# Altium schematic symbol library PCB_Alimentation_équipe1.SCHLIB: 53 symbols
Pins are listed as number, name and electrical type; pins without a type are passive.

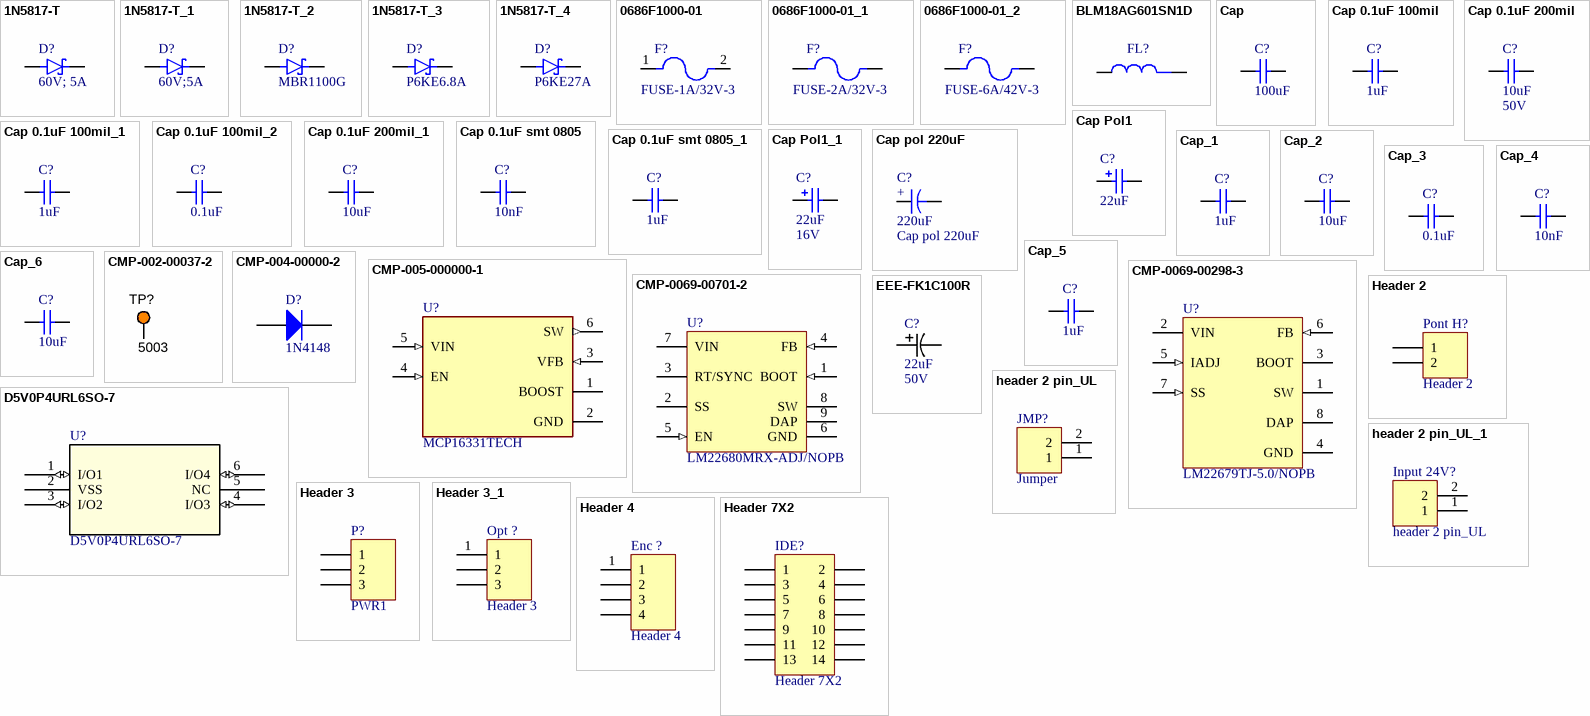
[diagram p0: symbols 1N5817-T to Header 7X2]

## 1N5817-T
designator D?, comment 60V; 5A
Diode Schottky 60 V 5A Through Hole; MF: Diodes Inc.; MP: 1N5817-T; Package: DO-41 Diodes Inc.; Price: None; Check_prices: https://www.snapeda.com/parts/1N5817-T/Diodes+Inc./view-part/?ref=eda; Value: *; SnapEDA_Link: https://www.snapeda.com/parts/1N5817-T/Diodes+Inc./view-part/?ref=snap; Availability: In Stock; Purchase-URL: https://pricing.snapeda.com/search/part/1N5817-T/?ref=eda
footprint DIOAD1039W78L463D236
pins: 1 K, 2 A

## 1N5817-T_1
designator D?, comment 60V;5A
60V 5A, 641-1420-1-nd; MF: Diodes Inc.; MP: 1N5817-T; Package: DO-41 Diodes Inc.; Price: None; Check_prices: https://www.snapeda.com/parts/1N5817-T/Diodes+Inc./view-part/?ref=eda; Value: *; SnapEDA_Link: https://www.snapeda.com/parts/1N5817-T/Diodes+Inc./view-part/?ref=snap; Availability: In Stock; Purchase-URL: https://pricing.snapeda.com/search/part/1N5817-T/?ref=eda
footprint DIOAD1039W78L463D236
footprint SB560ET-G_PGL
pins: 1 K, 2 A

## 1N5817-T_2
designator D?, comment MBR1100G
Diode Schottky 20 V 1A Through Hole DO-41; MF: Diodes Inc.; MP: 1N5817-T; Package: DO-41 Diodes Inc.; Price: None; Check_prices: https://www.snapeda.com/parts/1N5817-T/Diodes+Inc./view-part/?ref=eda; Value: *; SnapEDA_Link: https://www.snapeda.com/parts/1N5817-T/Diodes+Inc./view-part/?ref=snap; Availability: In Stock; Purchase-URL: https://pricing.snapeda.com/search/part/1N5817-T/?ref=eda
footprint DIOAD1039W78L463D236
pins: 1 K, 2 A

## 1N5817-T_3
designator D?, comment P6KE6.8A
TVS DIODE 5.8VWM 10.5VC DO201; MF: Diodes Inc.; MP: 1N5817-T; Package: DO-41 Diodes Inc.; Price: None; Check_prices: https://www.snapeda.com/parts/1N5817-T/Diodes+Inc./view-part/?ref=eda; Value: *; SnapEDA_Link: https://www.snapeda.com/parts/1N5817-T/Diodes+Inc./view-part/?ref=snap; Availability: In Stock; Purchase-URL: https://pricing.snapeda.com/search/part/1N5817-T/?ref=eda
footprint DIOAD1039W78L463D236
footprint P6KE6.8A_PGL
pins: 1 K, 2 A

## 1N5817-T_4
designator D?, comment P6KE27A
Diode Schottky 20 V 1A Through Hole DO-41; MF: Diodes Inc.; MP: 1N5817-T; Package: DO-41 Diodes Inc.; Price: None; Check_prices: https://www.snapeda.com/parts/1N5817-T/Diodes+Inc./view-part/?ref=eda; Value: *; SnapEDA_Link: https://www.snapeda.com/parts/1N5817-T/Diodes+Inc./view-part/?ref=snap; Availability: In Stock; Purchase-URL: https://pricing.snapeda.com/search/part/1N5817-T/?ref=eda
footprint DIOAD1039W78L463D236
footprint P6KE27A_PGL
pins: 1 K, 2 A

## 0686F1000-01
designator F?, comment FUSE-1A/32V-3
0603 SMT Fuse | Fast Acting | 1A; MF: Bel Fuse; MP: 0686F1000-01; SnapEDA_Link: https://www.snapeda.com/parts/0686F1000-01/Bel+Circuit+Protection/view-part/?ref=snap; Package: 0603 Bel Fuse Inc.; Value: *; Check_prices: https://www.snapeda.com/parts/0686F1000-01/Bel+Circuit+Protection/view-part/?ref=eda
footprint FUSC1608X60N
pins: 1, 2

## 0686F1000-01_1
designator F?, comment FUSE-2A/32V-3
0603 SMT Fuse | Fast Acting | 1A; MF: Bel Fuse; MP: 0686F1000-01; SnapEDA_Link: https://www.snapeda.com/parts/0686F1000-01/Bel+Circuit+Protection/view-part/?ref=snap; Package: 0603 Bel Fuse Inc.; Value: *; Check_prices: https://www.snapeda.com/parts/0686F1000-01/Bel+Circuit+Protection/view-part/?ref=eda
footprint FUSC1608X60N
pins: 1, 2

## 0686F1000-01_2
designator F?, comment FUSE-6A/42V-3
0603 SMT Fuse | Fast Acting | 6A  p15125ct-ND; MF: Bel Fuse; MP: 0686F1000-01; SnapEDA_Link: https://www.snapeda.com/parts/0686F1000-01/Bel+Circuit+Protection/view-part/?ref=snap; Package: 0603 Bel Fuse Inc.; Value: *; Check_prices: https://www.snapeda.com/parts/0686F1000-01/Bel+Circuit+Protection/view-part/?ref=eda
footprint FUSC1608X60N
pins: 1, 2

## BLM18AG601SN1D
designator FL?  (value not drawn)
33 Ohms  - Ferrite Bead 0603 (1608 Metric); MF: Murata; Check_prices: https://www.snapeda.com/parts/BLM18AG601SN1D/Murata/view-part/?ref=eda; SnapEDA_Link: https://www.snapeda.com/parts/BLM18AG601SN1D/Murata/view-part/?ref=snap; Availability: In Stock; Value: *; Price: None; MP: BLM18AG601SN1D; Package: 1608 Murata; Purchase-URL: https://pricing.snapeda.com/search/part/BLM18AG601SN1D/?ref=eda
footprint BEADC1608X95N
pins: 1, 2

## Cap
designator C?  value 100uF  (hidden comment: Cap)
Published: 8-Jun-2000; LatestRevisionDate: 17-Jul-2002; LatestRevisionNote: Re-released for DXP Platform.; PackageReference: RAD-0.3; Publisher: Altium Limited; PackageDescription: Radial Cap, Thru-Hole; 2 Leads; 0.3 in Pin Spacing
footprint RAD-0.3 (Radial Cap, Thru-Hole; 2 Leads; 0.3 in Pin Spacing)
simulation model CAP (Capacitor)
signal-integrity model Cap
footprint TH_Cap_CERAM
footprint CAPPRD250W45D630H600
pins: 1, 2

## Cap 0.1uF 100mil
designator C?  value 1uF  (hidden comment: Cap 0.1uF 100mil)
CAP CER 0.1uF 50V X7R RADIAL; Published: 8-Jun-2000; LatestRevisionDate: 17-Jul-2002; LatestRevisionNote: Re-released for DXP Platform.; PackageReference: RAD-0.3; Publisher: Altium Limited; PackageDescription: Radial Cap, Thru-Hole; 2 Leads; 0.3 in Pin Spacing; Digikey: 399-4264-ND
simulation model CAP (Capacitor)
signal-integrity model Cap
footprint condensateur 0.1uf 100mil (condensateur 0.1uf 100mil, Thru hole)
pins: 1, 2

## Cap 0.1uF 100mil_1
designator C?, comment value 1uF  (hidden comment: Cap 1uF 100mil)
CAP CER 0.1uF 50V X7R RADIAL; Published: 8-Jun-2000; LatestRevisionDate: 17-Jul-2002; LatestRevisionNote: Re-released for DXP Platform.; PackageReference: RAD-0.3; Publisher: Altium Limited; PackageDescription: Radial Cap, Thru-Hole; 2 Leads; 0.3 in Pin Spacing; Digikey: 399-4264-ND
simulation model CAP (Capacitor)
signal-integrity model Cap
footprint condensateur 0.1uf 100mil (condensateur 0.1uf 100mil, Thru hole)
pins: 1, 2

## Cap 0.1uF 100mil_2
designator C?, comment value 0.1uF  (hidden comment: Cap 0.1uF 100mil)
CAP CER 0.1uF 50V X7R RADIAL; Published: 8-Jun-2000; LatestRevisionDate: 17-Jul-2002; LatestRevisionNote: Re-released for DXP Platform.; PackageReference: RAD-0.3; Publisher: Altium Limited; PackageDescription: Radial Cap, Thru-Hole; 2 Leads; 0.3 in Pin Spacing; Digikey: 399-4264-ND
simulation model CAP (Capacitor)
signal-integrity model Cap
footprint condensateur 0.1uf 100mil (condensateur 0.1uf 100mil, Thru hole)
pins: 1, 2

## Cap 0.1uF 200mil
designator C?, comment 50V  value 10uF
CAP CER 0.1uF 200mil; Published: 8-Jun-2000; LatestRevisionDate: 17-Jul-2002; LatestRevisionNote: Re-released for DXP Platform.; PackageReference: RAD-0.3; Publisher: Altium Limited; PackageDescription: Radial Cap, Thru-Hole; 2 Leads; 0.3 in Pin Spacing
simulation model CAP (Capacitor)
signal-integrity model Cap
footprint Condensateur 0.1uF 200mil (Condensateur 0.1uF 200mil radial)
footprint condensateur 0.1uf 100mil (condensateur 0.1uf 100mil, Thru hole)
footprint Condensateur 0.1uF 400mil (Condensateur 0.1uF 400mil Axial)
pins: 1, 2

## Cap 0.1uF 200mil_1
designator C?, comment value 10uF  (hidden comment: CAP CER 0.1uF 200mil)
Published: 8-Jun-2000; LatestRevisionDate: 17-Jul-2002; LatestRevisionNote: Re-released for DXP Platform.; PackageReference: RAD-0.3; Publisher: Altium Limited; PackageDescription: Radial Cap, Thru-Hole; 2 Leads; 0.3 in Pin Spacing
simulation model CAP (Capacitor)
signal-integrity model Cap
footprint Condensateur 0.1uF 200mil (Condensateur 0.1uF 200mil radial)
footprint condensateur 0.1uf 100mil (condensateur 0.1uf 100mil, Thru hole)
footprint Condensateur 0.1uF 400mil (Condensateur 0.1uF 400mil Axial)
pins: 1, 2

## Cap 0.1uF smt 0805
designator C?, comment value 10nF  (hidden comment: CAP CER 0.1uF 50V X7R 0805)
Published: 8-Jun-2000; LatestRevisionDate: 17-Jul-2002; LatestRevisionNote: Re-released for DXP Platform.; PackageReference: RAD-0.3; Publisher: Altium Limited; PackageDescription: Radial Cap, Thru-Hole; 2 Leads; 0.3 in Pin Spacing; Parameter 1: *; Digikey: ‎399-1169-1-ND‎
simulation model CAP (Capacitor)
signal-integrity model Cap
footprint cap0805 reflow (Capacitor, 0.1uF 0805)
footprint TH_Cap_CERAM
footprint CAPRB500W50L450T300H550
pins: 1, 2

## Cap 0.1uF smt 0805_1
designator C?, comment value 1uF  (hidden comment: CAP CER 0.1uF 50V X7R 0805)
Published: 8-Jun-2000; LatestRevisionDate: 17-Jul-2002; LatestRevisionNote: Re-released for DXP Platform.; PackageReference: RAD-0.3; Publisher: Altium Limited; PackageDescription: Radial Cap, Thru-Hole; 2 Leads; 0.3 in Pin Spacing; Parameter 1: *; Digikey: ‎399-1169-1-ND‎
simulation model CAP (Capacitor)
signal-integrity model Cap
footprint cap0805 reflow (Capacitor, 0.1uF 0805)
footprint TH_Cap_CERAM
footprint CAPRB500W50L450T300H550
pins: 1, 2

## Cap Pol1
designator C?  value 22uF  (hidden comment: Cap Pol1)
Polarized Capacitor (Radial); Published: 8-Jun-2000; LatestRevisionDate: 17-Jul-2002; LatestRevisionNote: Re-released for DXP Platform.; PackageReference: RB7.6-15; Publisher: Altium Limited; PackageDescription: Polarized Capacitor (Radial); 2 Leads
footprint RB7.6-15 (Polarized Capacitor (Radial); 2 Leads)
simulation model CAP (Capacitor)
signal-integrity model Cap Pol
footprint TH_CAP_ELEC
footprint CAPPRD350W60D800H1150
footprint CAPPRD350W60D800H1150
footprint CAPPRD250W45D630H600
pins: 1, 2
1 alternate drawing of the same symbol

## Cap Pol1_1
designator C?, comment 16V  value 22uF
Polarized Capacitor (Radial); Published: 8-Jun-2000; LatestRevisionDate: 17-Jul-2002; LatestRevisionNote: Re-released for DXP Platform.; PackageReference: RB7.6-15; Publisher: Altium Limited; PackageDescription: Polarized Capacitor (Radial); 2 Leads
footprint RB7.6-15 (Polarized Capacitor (Radial); 2 Leads)
simulation model CAP (Capacitor)
signal-integrity model Cap Pol
footprint TH_CAP_ELEC
footprint CAPPRD250W45D630H600
footprint CAPPRD350W60D800H1150
footprint CAPPRD250W45D630H600
pins: 1, 2
1 alternate drawing of the same symbol

## Cap pol 220uF
designator C?  value 220uF
CAP ALUM 220UF 20% 35V RADIAL; Published: 23-Sep-2002; PackageReference: CAPR5-4X5; Publisher: Altium Limited; PackageDescription: Capacitor; 2 Leads; Digikey: 399-6122-ND
simulation model CAP (Capacitor)
signal-integrity model Cap
footprint Condensateur 220uF 5mm pitch (Condensateur 220uF 5mm pitch,  10mm X 12mm)
pins: 1, 2
text: +

## Cap_1
designator C?, comment value 1uF  (hidden comment: XR7105)
FG24X7R1H105KRT06 (TH); Published: 8-Jun-2000; LatestRevisionDate: 17-Jul-2002; LatestRevisionNote: Re-released for DXP Platform.; PackageReference: RAD-0.3; Publisher: Altium Limited; PackageDescription: Radial Cap, Thru-Hole; 2 Leads; 0.3 in Pin Spacing
footprint RAD-0.3 (Radial Cap, Thru-Hole; 2 Leads; 0.3 in Pin Spacing)
simulation model CAP (Capacitor)
signal-integrity model Cap
footprint TH_Cap_CERAM
footprint CAPRB500W50L450T300H550
pins: 1, 2

## Cap_2
designator C?, comment value 10uF  (hidden comment: XR7 106)
Published: 8-Jun-2000; LatestRevisionDate: 17-Jul-2002; LatestRevisionNote: Re-released for DXP Platform.; PackageReference: RAD-0.3; Publisher: Altium Limited; PackageDescription: Radial Cap, Thru-Hole; 2 Leads; 0.3 in Pin Spacing
footprint RAD-0.3 (Radial Cap, Thru-Hole; 2 Leads; 0.3 in Pin Spacing)
simulation model CAP (Capacitor)
signal-integrity model Cap
footprint TH_Cap_CERAM
footprint CAPPRD350W60D800H1150
footprint CAPPRD350W60D800H1150
footprint CAPRB500W50L450T300H550
pins: 1, 2

## Cap_3
designator C?, comment value 0.1uF  (hidden comment: C320c104m5u5ta)
Published: 8-Jun-2000; LatestRevisionDate: 17-Jul-2002; LatestRevisionNote: Re-released for DXP Platform.; PackageReference: RAD-0.3; Publisher: Altium Limited; PackageDescription: Radial Cap, Thru-Hole; 2 Leads; 0.3 in Pin Spacing
footprint RAD-0.3 (Radial Cap, Thru-Hole; 2 Leads; 0.3 in Pin Spacing)
simulation model CAP (Capacitor)
signal-integrity model Cap
footprint TH_Cap_CERAM
footprint CAPRB500W50L450T300H550
pins: 1, 2

## Cap_4
designator C?, comment value 10nF  (hidden comment: C320c105k5n5ta)
Published: 8-Jun-2000; LatestRevisionDate: 17-Jul-2002; LatestRevisionNote: Re-released for DXP Platform.; PackageReference: RAD-0.3; Publisher: Altium Limited; PackageDescription: Radial Cap, Thru-Hole; 2 Leads; 0.3 in Pin Spacing
footprint RAD-0.3 (Radial Cap, Thru-Hole; 2 Leads; 0.3 in Pin Spacing)
simulation model CAP (Capacitor)
signal-integrity model Cap
footprint TH_Cap_CERAM
footprint CAPRB500W50L450T300H550
pins: 1, 2

## Cap_5
designator C?, comment value 1uF  (hidden comment: XR7 105)
FG24X7R1H105KRT06 (TH); Published: 8-Jun-2000; LatestRevisionDate: 17-Jul-2002; LatestRevisionNote: Re-released for DXP Platform.; PackageReference: RAD-0.3; Publisher: Altium Limited; PackageDescription: Radial Cap, Thru-Hole; 2 Leads; 0.3 in Pin Spacing
footprint RAD-0.3 (Radial Cap, Thru-Hole; 2 Leads; 0.3 in Pin Spacing)
simulation model CAP (Capacitor)
signal-integrity model Cap
footprint TH_Cap_CERAM
footprint CAPRB500W50L450T300H550
pins: 1, 2

## Cap_6
designator C?, comment value 10uF  (hidden comment: XR7 105)
FG24X7R1H105KRT06 (TH); Published: 8-Jun-2000; LatestRevisionDate: 17-Jul-2002; LatestRevisionNote: Re-released for DXP Platform.; PackageReference: RAD-0.3; Publisher: Altium Limited; PackageDescription: Radial Cap, Thru-Hole; 2 Leads; 0.3 in Pin Spacing
footprint RAD-0.3 (Radial Cap, Thru-Hole; 2 Leads; 0.3 in Pin Spacing)
simulation model CAP (Capacitor)
signal-integrity model Cap
footprint TH_Cap_CERAM
footprint CAPRB500W50L450T300H550
pins: 1, 2

## CMP-002-00037-2
designator TP?, comment 5003
Test Point, Orange, Height 4.6 mm, Tail Length 3 mm, 1-Pin THD, RoHS; Manufacturer: Keystone; Colour: Orange; Packaging: Bulk; Package Description: 1-Pin Through Hole Device, Dia 2.54 mm; Pins: 1; Package Reference: 5003; Datasheet Version: Jun-15; Case/Package: 5003; Mounting Technology: TH; Connector Type: TestPoint; Diameter: 2.54mm; Contact Material: Bronze; Datasheet URL: http://keyelco.com/userAssets/file/M65p56.pdf; Manufacturer URL: http://www.keyelco.com/; Package Quantity: 10; Contact Plating: Tin; RoHS Compliant: True
footprint KSTN-5003 (Test Point, Through Hole, Dia 2.54mm)
pins: 1

## CMP-004-00000-2
designator D?, comment 1N4148
High Speed Diode, 100 V, 0.45 A, -65 to 175 degC, 2-Pin SOD27, RoHS, Bulk; Manufacturer: Fairchild; Elements: 1; Recovery Time: 4ns; Forward Current: 300mA; Power: 500mW; Forward Voltage: 1V; Max Surge Current: 4A; Peak Reverse Current: 5uA; Datasheet URL: http://www.nxp.com/documents/data_sheet/1N4148_1N4448.pdf; Min Operating Temperature: -65°C; Manufacturer URL: https://www.fairchildsemi.com/; Packaging: Bulk; Diameter: 1.91mm; Pins: 2; Package URL: http://www.nxp.com/documents/data_sheet/1N4148_1N4448.pdf; Package Reference: SOD27; Max Operating Temperature: 175°C; Package Quantity: 2000; Case/Package: DO; Datasheet Version: Aug-04; RoHS Compliant: True
footprint NXP-SOD27-2_V (SOD27, 2-Leads, Dia 1.85mm, Body Length 4.25mm, Pin Spacing 9mm)
pins: 1 A, 2 K

## CMP-005-000000-1
designator U?, comment MCP16331TECH
Switching Regulator [Microchip] MCP16331T-E/CH Switching Regulator; MF: Microchip Technology; SnapEDA_Link: https://www.snapeda.com/parts/MCP16331TECH/Microchip/view-part/?ref=snap; Design Item ID: MCP16331TECH; Package: None; Source: MCP16331TECH.SchLib; Availability: Not in stock; Pin Count: 6; Value: *; Check_prices: https://www.snapeda.com/parts/MCP16331TECH/Microchip/view-part/?ref=eda; Price: None; MP: MCP16331TECH; Component Type: Standard
footprint SOT95P280X145-6N
pins: 1 BOOST, 2 GND (power), 3 VFB (in), 4 EN (in), 5 VIN (in), 6 SW (out)

## CMP-0069-00298-3
designator U?, comment LM22679TJ-5.0/NOPB
5A SIMPLE SWITCHER®, Step-Down Voltage Regulator with Adjustable Soft-Start and Current Limit, 7-pin TO-263 Thin, Pb-Free; Manufacturer: Texas Instruments; PowerWise: N; PackageTopMarking: NSUZXYTTE#*LM22679*TJ-5.0; PinCount: 7; ComponentLink1URL: http://www.ti.com/general/docs/lit/getliterature.tsp?genericPartNumber=LM22679&fileType=pdf; CompType: Switcher; ComponentLink1Description: Datasheet URL; RoHS: Y; PackageReference: NDR0007A; PackageDescription: Thin TO-263, Molded, 9.85 x 10.16 x 2mm Body, 7 Lead, 1.27mm Pitch, Surface Mount
footprint NDR0007A_N (DPAK, 7-Leads, Body 10.4x10.1mm, Pitch 1.27mm, IPC Medium Density)
footprint NDR0007A_NHeat
pins: 1 SW (power), 2 VIN (power), 3 BOOT, 4 GND (power), 5 IADJ (in), 6 FB (in), 7 SS (in), 8 DAP (power)

## CMP-0069-00701-2
designator U?, comment LM22680MRX-ADJ/NOPB
2A SIMPLE SWITCHER®, Step-Down Voltage Regulator with Features, 8-pin PSOP, Pb-Free; Manufacturer: National Semiconductor; PackageTopMarking: NSXYTT*L22680*-ADJ; PowerWise: N; CompType: Switcher; PinCount: 8; PackageReference: MRA08B; ComponentLink1Description: LM22680 Datasheet; PackageDescription: Molded, PSOP .193 x .154 x .058in, 8 Lead, .050in Pitch, Large DAP; ComponentLink3URL: http://www.national.com/packaging/folders/mra08b.html; RevisionNote: DatasheetVersion Updated. Component URLs added; DatasheetVersion: Jan-2011; RoHS: Y; ComponentLink3Description: MRA08B Package Page; Code_JEDEC: MS-012-AA; ComponentLink2Description: LM22680 Web Page; ComponentLink1URL: http://www.national.com/ds/LM/LM22680.pdf; PackageVersion: revB, Dec-2007; ComponentLink2URL: http://www.national.com/pf/LM/LM22680.html
footprint MRA08B_L (SOIC, 8-Leads, Body 4.9x3.9mm, Pitch 1.27mm, Thermal Pad, IPC High Density)
footprint MRA08B_N (SOIC, 8-Leads, Body 4.9x3.9mm, Pitch 1.27mm, Thermal Pad, IPC Medium Density)
footprint MRA08B_M (SOIC, 8-Leads, Body 4.9x3.9mm, Pitch 1.27mm, Thermal Pad, IPC Low Density)
pins: 1 BOOT (in), 2 SS, 3 RT/SYNC, 4 FB (in), 5 EN (in), 6 GND (power), 7 VIN (power), 8 SW, 9 DAP

## D5V0P4URL6SO-7
designator U?
TVS DIODE 3.3VWM 6VC SOT26; Manufacturer_Name: Diodes Inc; Copyright: Copyright (C) 2026 Ultra Librarian. All rights reserved.; Manufacturer_Part_Number: D5V0P4URL6SO-7; RefDes: RefDes; Type: Type
footprint SOT26_DIO
footprint SOT26_DIO
pins: 1 I/O1 (io), 2 VSS (power), 3 I/O2 (io), 4 I/O3 (io), 5 NC, 6 I/O4 (io)

## EEE-FK1C100R
designator C?  C: 22uF  V: 50V  (hidden comment: EEE-FK1C100R)
No Description Available; Manufacturer_Name: Panasonic; Copyright: Copyright (C) 2025 Ultra Librarian. All rights reserved.; Manufacturer_Part_Number: EEE-FK1C100R
footprint CAP_4 X 5.8_PAN
footprint TH_CAP_ELEC
footprint CAPPRD250W45D630H600
footprint CAPPRD350W60D800H1150
footprint CAPPRD250W45D630H600
footprint CAPPRD250W45D630H600
pins: 1, 2

## Header 2
designator Pont H?
Header, 2-Pin; LatestRevisionDate: 17-Jul-2002; LatestRevisionNote: Re-released for DXP Platform.; Publisher: Altium Limited
footprint HDR1X2 (Connector; Header; 2 Position)
signal-integrity model Connector
footprint TH_MTA156_2pos
pins: 1, 2

## header 2 pin_UL
designator JMP?, comment Jumper
CONN HEADER VERT 3POS 2.54MM; LatestRevisionDate: 17-Jul-2002; LatestRevisionNote: Re-released for DXP Platform.; Publisher: Altium Limited; Digikey: 732-5315-ND
footprint Header 2P 100mil (Header male)
pins: 1, 2

## header 2 pin_UL_1
designator Input 24V?, comment header 2 pin_UL
CONN HEADER VERT 3POS 2.54MM; LatestRevisionDate: 17-Jul-2002; LatestRevisionNote: Re-released for DXP Platform.; Publisher: Altium Limited; Digikey: 732-5315-ND
footprint Header 2P 100mil (Header male)
footprint TH_MTA156_2pos
pins: 1, 2

## Header 3
designator P?, comment PWR1
Header, 3-Pin; LatestRevisionDate: 17-Jul-2002; LatestRevisionNote: Re-released for DXP Platform.; Publisher: Altium Limited
footprint HDR1X3 (Connector; Header; 3 Position)
signal-integrity model Connector
footprint JST_B3B-XH-A (LF)(SN)
pins: 1, 2, 3

## Header 3_1
designator Opt ?, comment Header 3
Header, 3-Pin; LatestRevisionDate: 17-Jul-2002; LatestRevisionNote: Re-released for DXP Platform.; Publisher: Altium Limited
footprint HDR1X3 (Connector; Header; 3 Position)
signal-integrity model Connector
footprint JST_B3B-XH-A (LF)(SN)
footprint CONN_A-6373-03A_MOL
pins: 1, 2, 3

## Header 4
designator Enc ?
Header, 4-Pin; LatestRevisionDate: 17-Jul-2002; LatestRevisionNote: Re-released for DXP Platform.; Publisher: Altium Limited
footprint HDR1X4 (Connector; Header; 4 Position)
signal-integrity model Connector
footprint JST_B4B-XH-A(LF)(SN)
pins: 1, 2, 3, 4

## Header 7X2
designator IDE?
Header, 7-Pin, Dual row; LatestRevisionDate: 17-Jul-2002; LatestRevisionNote: Re-released for DXP Platform.; Publisher: Altium Limited
footprint HDR2X7 (Connector; Header; 7x2 Position)
signal-integrity model Connector
pins: 1, 2, 3, 4, 5, 6, 7, 8, 9, 10, 11, 12, 13, 14

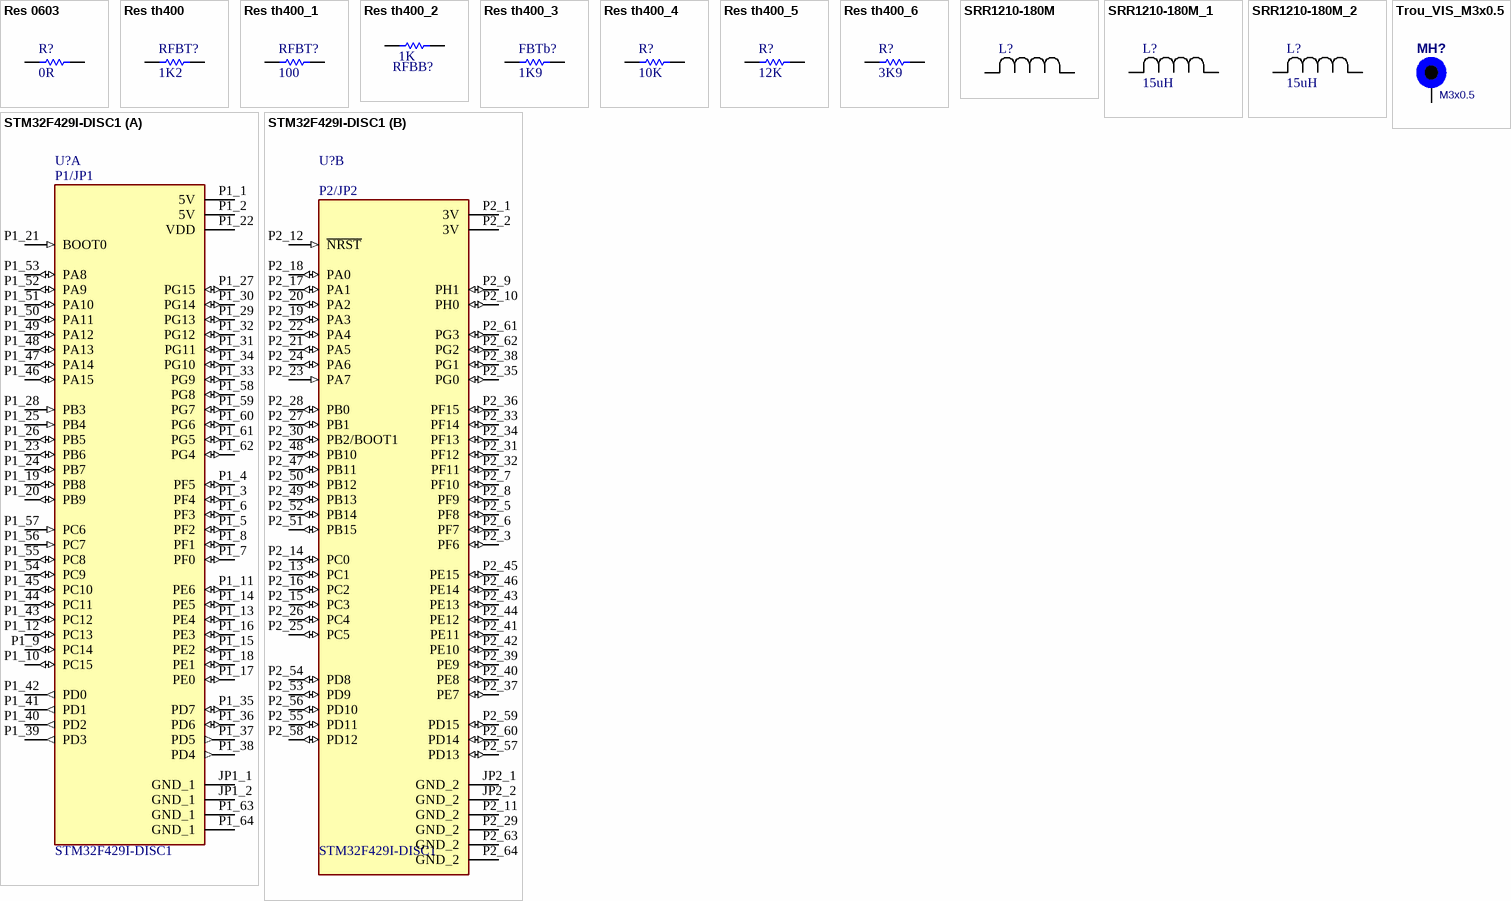
[diagram p1: symbols Res 0603 to Trou_VIS_M3x0.5]

## Res 0603
designator R?, comment value 0R  (hidden comment: res)
Resistor; Published: 8-Jun-2000; LatestRevisionDate: 17-Jul-2002; LatestRevisionNote: Re-released for DXP Platform.; PackageReference: AXIAL-0.3; Publisher: Altium Limited; PackageDescription: Axial Device, Thru-Hole; 2 Leads; 0.3 in Pin Spacing
footprint res0603 reflow (Chip Resistor, 2-Leads, Body 2,40x0,95mm, IPC Medium Density)
simulation model RESISTOR (Resistor)
signal-integrity model Res
pins: 1, 2

## Res th400
designator RFBT?, comment value 1K2  (hidden comment: res)
Resistor; Published: 8-Jun-2000; LatestRevisionDate: 17-Jul-2002; LatestRevisionNote: Re-released for DXP Platform.; PackageReference: AXIAL-0.3; Publisher: Altium Limited; PackageDescription: Axial Device, Thru-Hole; 2 Leads; 0.3 in Pin Spacing
footprint Resistor_Axial 0.4
simulation model RESISTOR (Resistor)
signal-integrity model Res
pins: 1, 2

## Res th400_1
designator RFBT?, comment value 100  (hidden comment: res)
Resistor; Published: 8-Jun-2000; LatestRevisionDate: 17-Jul-2002; LatestRevisionNote: Re-released for DXP Platform.; PackageReference: AXIAL-0.3; Publisher: Altium Limited; PackageDescription: Axial Device, Thru-Hole; 2 Leads; 0.3 in Pin Spacing
footprint Resistor_Axial 0.4
simulation model RESISTOR (Resistor)
signal-integrity model Res
pins: 1, 2

## Res th400_2
designator RFBB?, comment value 1K  (hidden comment: res)
Resistor; Published: 8-Jun-2000; LatestRevisionDate: 17-Jul-2002; LatestRevisionNote: Re-released for DXP Platform.; PackageReference: AXIAL-0.3; Publisher: Altium Limited; PackageDescription: Axial Device, Thru-Hole; 2 Leads; 0.3 in Pin Spacing
footprint Resistor_Axial 0.4
simulation model RESISTOR (Resistor)
signal-integrity model Res
pins: 1, 2

## Res th400_3
designator FBTb?, comment value 1K9  (hidden comment: res)
Resistor; Published: 8-Jun-2000; LatestRevisionDate: 17-Jul-2002; LatestRevisionNote: Re-released for DXP Platform.; PackageReference: AXIAL-0.3; Publisher: Altium Limited; PackageDescription: Axial Device, Thru-Hole; 2 Leads; 0.3 in Pin Spacing
footprint Resistor_Axial 0.4
simulation model RESISTOR (Resistor)
signal-integrity model Res
pins: 1, 2

## Res th400_4
designator R?, comment value 10K  (hidden comment: res)
Resistor; Published: 8-Jun-2000; LatestRevisionDate: 17-Jul-2002; LatestRevisionNote: Re-released for DXP Platform.; PackageReference: AXIAL-0.3; Publisher: Altium Limited; PackageDescription: Axial Device, Thru-Hole; 2 Leads; 0.3 in Pin Spacing
footprint Resistor_Axial 0.4
simulation model RESISTOR (Resistor)
signal-integrity model Res
pins: 1, 2

## Res th400_5
designator R?, comment value 12K  (hidden comment: res)
Resistor; Published: 8-Jun-2000; LatestRevisionDate: 17-Jul-2002; LatestRevisionNote: Re-released for DXP Platform.; PackageReference: AXIAL-0.3; Publisher: Altium Limited; PackageDescription: Axial Device, Thru-Hole; 2 Leads; 0.3 in Pin Spacing
footprint Resistor_Axial 0.4
simulation model RESISTOR (Resistor)
signal-integrity model Res
pins: 1, 2

## Res th400_6
designator R?, comment value 3K9  (hidden comment: res)
Resistor; Published: 8-Jun-2000; LatestRevisionDate: 17-Jul-2002; LatestRevisionNote: Re-released for DXP Platform.; PackageReference: AXIAL-0.3; Publisher: Altium Limited; PackageDescription: Axial Device, Thru-Hole; 2 Leads; 0.3 in Pin Spacing
footprint Resistor_Axial 0.4
simulation model RESISTOR (Resistor)
signal-integrity model Res
pins: 1, 2

## SRR1210-180M
designator L?  (value not drawn)
10uH; Manufacturer_Name: Bourns Electronics; Copyright: Copyright (C) 2025 Ultra Librarian. All rights reserved.; Manufacturer_Part_Number: SRR1210-180M
footprint IND_BOURNS_SRR1210
footprint TH_IND_15uH
footprint IND_RLB9012-103KL
pins: 1, 2

## SRR1210-180M_1
designator L?, comment 15uH
15uH, RLB0914-150KL-ND; Manufacturer_Name: Bourns Electronics; Manufacturer_Part_Number: SRR1210-180M; Copyright: Copyright (C) 2025 Ultra Librarian. All rights reserved.
footprint IND_BOURNS_SRR1210
footprint TH_IND_15uH
footprint IND_RLB9012-103KL
pins: 1, 2

## SRR1210-180M_2
designator L?, comment 15uH
15uH RLB0914-150KL-ND; Manufacturer_Name: Bourns Electronics; Manufacturer_Part_Number: SRR1210-180M; Copyright: Copyright (C) 2025 Ultra Librarian. All rights reserved.
footprint IND_BOURNS_SRR1210
footprint TH_IND_15uH
footprint IND_RLB9012-103KL
pins: 1, 2

## STM32F429I-DISC1
designator U?
STM32F429 Discovery STM32F4 ARMÂ® CortexÂ®-M4 MCU 32-Bit Embedded Evaluation Board; MF: STMicroelectronics; SnapEDA_Link: https://www.snapeda.com/parts/STM32F429I-DISC1/STMicroelectronics/view-part/504905/?ref=snap; MP: STM32F429I-DISC1; Price: None; Value: *; Availability: Unavailable; Package: SOIC-14 STMicroelectronics
footprint MODULE_STM32F429I-DISC1
part A pins: JP1_1 GND_1 (power), JP1_2 GND_1 (power), P1_1 5V (power), P1_2 5V (power), P1_3 PF4 (io), P1_4 PF5 (io), P1_5 PF2 (io), P1_6 PF3 (io), P1_7 PF0 (io), P1_8 PF1 (io), P1_9 PC14 (io), P1_10 PC15 (io), P1_11 PE6 (io), P1_12 PC13 (io), P1_13 PE4 (io), P1_14 PE5 (io), P1_15 PE2 (io), P1_16 PE3 (io), P1_17 PE0 (io), P1_18 PE1 (io), P1_19 PB8 (io), P1_20 PB9 (io), P1_21 BOOT0 (in), P1_22 VDD (power), P1_23 PB6 (io), P1_24 PB7 (io), P1_25 PB4 (in), P1_26 PB5 (io), P1_27 PG15 (io), P1_28 PB3 (in), P1_29 PG13 (io), P1_30 PG14 (io), P1_31 PG11 (io), P1_32 PG12 (io), P1_33 PG9 (io), P1_34 PG10 (io), P1_35 PD7 (io), P1_36 PD6 (io), P1_37 PD5 (out), P1_38 PD4 (out), P1_39 PD3 (out), P1_40 PD2 (out), P1_41 PD1 (out), P1_42 PD0 (out), P1_43 PC12 (io), P1_44 PC11 (io), P1_45 PC10 (io), P1_46 PA15 (io), P1_47 PA14 (io), P1_48 PA13 (io), P1_49 PA12 (io), P1_50 PA11 (io), P1_51 PA10 (io), P1_52 PA9 (io), P1_53 PA8 (io), P1_54 PC9 (io), P1_55 PC8 (io), P1_56 PC7 (in), P1_57 PC6 (in), P1_58 PG8 (io), P1_59 PG7 (io), P1_60 PG6 (io), P1_61 PG5 (io), P1_62 PG4 (io), P1_63 GND_1 (power), P1_64 GND_1 (power)
part B pins: JP2_1 GND_2 (power), JP2_2 GND_2 (power), P2_1 3V (power), P2_2 3V (power), P2_3 PF6 (io), P2_5 PF8 (io), P2_6 PF7 (io), P2_7 PF10 (io), P2_8 PF9 (io), P2_9 PH1 (io), P2_10 PH0 (io), P2_11 GND_2 (power), P2_12 ~{NRST} (in), P2_13 PC1 (io), P2_14 PC0 (io), P2_15 PC3 (io), P2_16 PC2 (io), P2_17 PA1 (io), P2_18 PA0 (io), P2_19 PA3 (io), P2_20 PA2 (io), P2_21 PA5 (io), P2_22 PA4 (io), P2_23 PA7 (in), P2_24 PA6 (io), P2_25 PC5 (io), P2_26 PC4 (io), P2_27 PB1 (io), P2_28 PB0 (io), P2_29 GND_2 (power), P2_30 PB2/BOOT1 (io), P2_31 PF12 (io), P2_32 PF11 (io), P2_33 PF14 (io), P2_34 PF13 (io), P2_35 PG0 (io), P2_36 PF15 (io), P2_37 PE7 (io), P2_38 PG1 (io), P2_39 PE9 (io), P2_40 PE8 (io), P2_41 PE11 (io), P2_42 PE10 (io), P2_43 PE13 (io), P2_44 PE12 (io), P2_45 PE15 (io), P2_46 PE14 (io), P2_47 PB11 (io), P2_48 PB10 (io), P2_49 PB13 (io), P2_50 PB12 (io), P2_51 PB15 (io), P2_52 PB14 (io), P2_53 PD9 (io), P2_54 PD8 (io), P2_55 PD11 (io), P2_56 PD10 (io), P2_57 PD13 (io), P2_58 PD12 (io), P2_59 PD15 (io), P2_60 PD14 (io), P2_61 PG3 (io), P2_62 PG2 (io), P2_63 GND_2 (power), P2_64 GND_2 (power)
part A text: P1/JP1
part B text: P2/JP2

## Trou_VIS_M3x0.5
designator MH?, comment Size: M3x0.5  (hidden comment: n/a)  (no BOM)
Trou de VIS_M3x0.5; Verification of pin-out by: JSG on 2015/10/16; Verification of footprint by: JSG on 2015/10/16; Manufacturer Part Number: n/a
footprint VIS_M3x0.5 (Trou de vis M3x0,5)
footprint VIS_M3x0.5 pads (Trou de vis M3x0,5)
pins: 1